# EAGLE library part S7P-VH (library con-JST VH)
JST VH Series header 3.96mm pitch disconnectable crimp style connectors, horizontal (side entry type), 7 pins
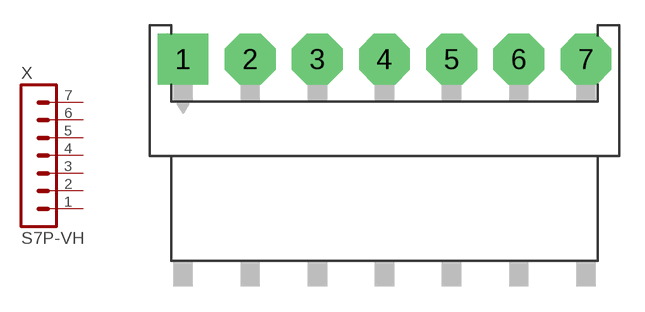
[diagram p12: symbol with the pads of S7P-VH; footprint S7P-VH]

Designator prefix X

## S7P-VH  [S7P-VH]
1  1  pas
2  2  pas
3  3  pas
4  4  pas
5  5  pas
6  6  pas
7  7  pas

## Footprint S7P-VH (pad centres in mm)
JST VH Series header 3.96mm pitch disconnectable crimp style connectors, horizontal (side entry type), 7 pins
drill 1.7 pad 3 square: 1 -11.88,0
drill 1.7 pad 3 octagon: 2 -7.92,0; 3 -3.96,0; 4 0,0; 5 3.96,0; 6 7.92,0; 7 11.88,0